# EAGLE library part STMPE811 (library Tristan_Robitaille's_Library)
STMPE811 S-Touch® advanced resistive touchscreen controller with 8-bit GPIO expander Technical specifications: Supply voltage range: 1.8V ~ 3.3V Current consumption: ~3mA Comm. interfaces: I2C and SPI Datasheet <https://media.digikey.com/pdf/Data%20Sheets/ST%20Microelectronics%20PDFS/STMPE811.pdf> Digi-Key part #: 497-8387-1-ND <http://www.digikey.ca/product-detail/en/stmicroelectronics/STMPE811QTR/497-8387-1-ND/1973335> Mouser part #: 511-STMPE811QTR <http://ca.mouser.com/ProductDetail/STMicroelectronics/STMPE811QTR/?qs=%2fha2pyFaduiZB%2fIha78NBkIwFxBJowcQu8doJtXU4YQOarsSwLN67w%3d%3d> Manufacturer part #: STMPE811QTR
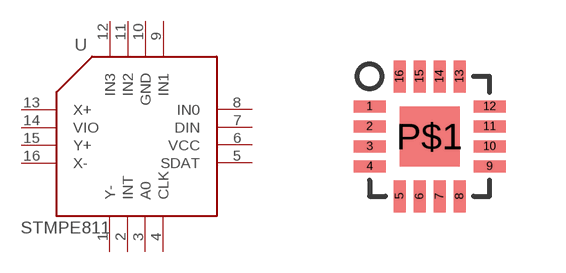
[diagram p23: symbol with the pads of QFN16_3X3; footprint QFN16_3X3]

Designator prefix U

## STMPE811 (DIGIKEY#: 497-8387-1-ND; MANF: STMPE811 GPIO Expander/Touch Screen Controller; MANF#: STMPE811QTR; MOUSER#: 511-STMPE811QTR)  [QFN16_3X3]
1  Y-  in
2  INT  out
3  A0  out
4  CLK  in
5  SDAT  out
6  VCC  pwr
7  DIN  in
8  IN0  in
9  IN1  in
10  GND  pwr
11  IN2  in
12  IN3  in
13  X+  in
14  VIO  pwr
15  Y+  in
16  X-  in

## Footprint QFN16_3X3 (pad centres in mm)
smd 0.8 x 0.3: 1 -1.5,0.75; 2 -1.5,0.25; 3 -1.5,-0.25; 4 -1.5,-0.75; 9 1.5,-0.75; 10 1.5,-0.25; 11 1.5,0.25; 12 1.5,0.75
smd 0.3 x 0.8: 5 -0.75,-1.5; 6 -0.25,-1.5; 7 0.25,-1.5; 8 0.75,-1.5; 13 0.75,1.5; 14 0.25,1.5; 15 -0.25,1.5; 16 -0.75,1.5
smd 1.5 x 1.5: P$1 0,0